# Altium footprint library SJ-63062A.PcbLib: 1 footprints
Each footprint in its own frame and in the unit in brackets; x right, y up, seen from the top. Pads: shape width x height; smd on the part's side, far side on the other; paste and mask are expansions set on the pad; w line width, h text height; cw(c..) or ccw(c..) is an arc to the next point about the centre after c.
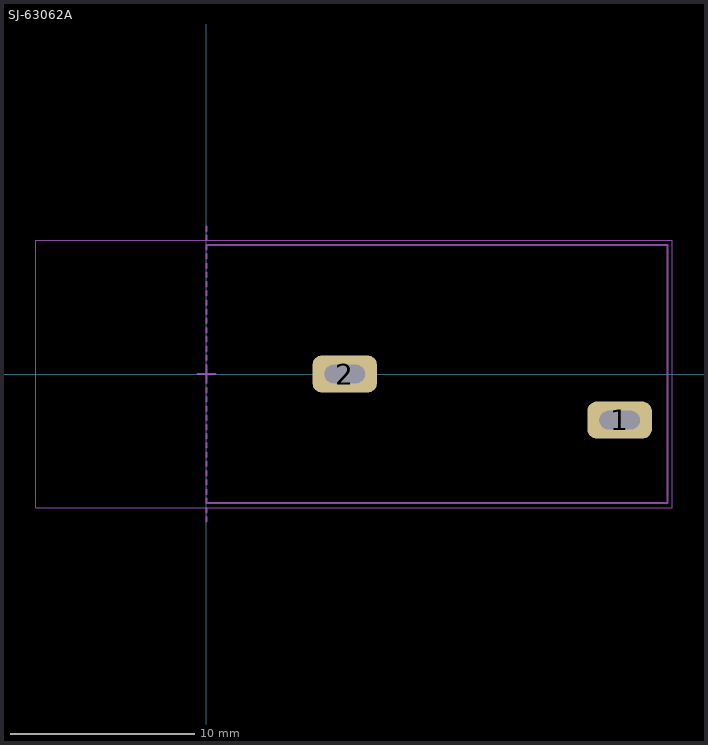
[diagram p0: the footprint, top view; thin cyan lines are the x and y axes]

## SJ-63062A [mm]
pads (2):
  rrect50% 3.5x2 hole 1 slot 2.2 at 0 deg unplated: 1(22.4,-2.5) 2(7.5,0)
Mechanical 1:
  lines w0.1: 0,-8 0,-7.75 ; 0,-7.5 0,-7.25 ; 0,-6.75 0,-7 25,-7 25,7 ; 0,-6.5 0,-6.25 ; 0,-6 0,-5.75 ; 0,-5.5 0,-5.25 ; 0,-5 0,-4.75 ; 0,-4.5 0,-4.25 ; 0,-4 0,-3.75 ; 0,-3.5 0,-3.25 ; 0,-3 0,-2.75 ; 0,-2.5 0,-2.25 ; 0,-2 0,-1.75 ; 0,-1.5 0,-1.25 ; 0,-1 0,-0.75 ; 0,-0.5 0,-0.25 ; 0,0.25 0,0.5 ; 0,0.75 0,1 ; 0,1.25 0,1.5 ; 0,1.75 0,2 ; 0,2.25 0,2.5 ; 0,2.75 0,3 ; 0,3.25 0,3.5 ; 0,3.75 0,4 ; 0,4.25 0,4.5 ; 0,4.75 0,5 ; 0,5.25 0,5.5 ; 0,5.75 0,6 ; 0,6.25 0,6.5 ; 0,6.75 0,7 25,7 ; 0,7.25 0,7.5 ; 0,7.75 0,8 ; 25,7 25,7
  text "Edge" at -2.875,-0.408 h0.65
  text ".Designator" at 9.575,-0.258 h0.65
Mechanical 2:
  lines w0.05: -9.25,-7.25 25.25,-7.25 25.25,7.25 -9.25,7.25 -9.25,-7.25
  lines w0.1: -0.5,0 0.5,0 ; 0,-0.5 0,0.5
3D body "SJ-63062A.step": height 12.7, standoff -3.9, extent -9.05,-6.95 24.8,6.95